# Altium footprint library Filters.PcbLib: 24 footprints (part 1 of 2)
Each footprint in its own frame and in the unit in brackets; x right, y up, seen from the top. Pads: shape width x height; smd on the part's side, far side on the other; paste and mask are expansions set on the pad; w line width, h text height; cw(c..) or ccw(c..) is an arc to the next point about the centre after c.
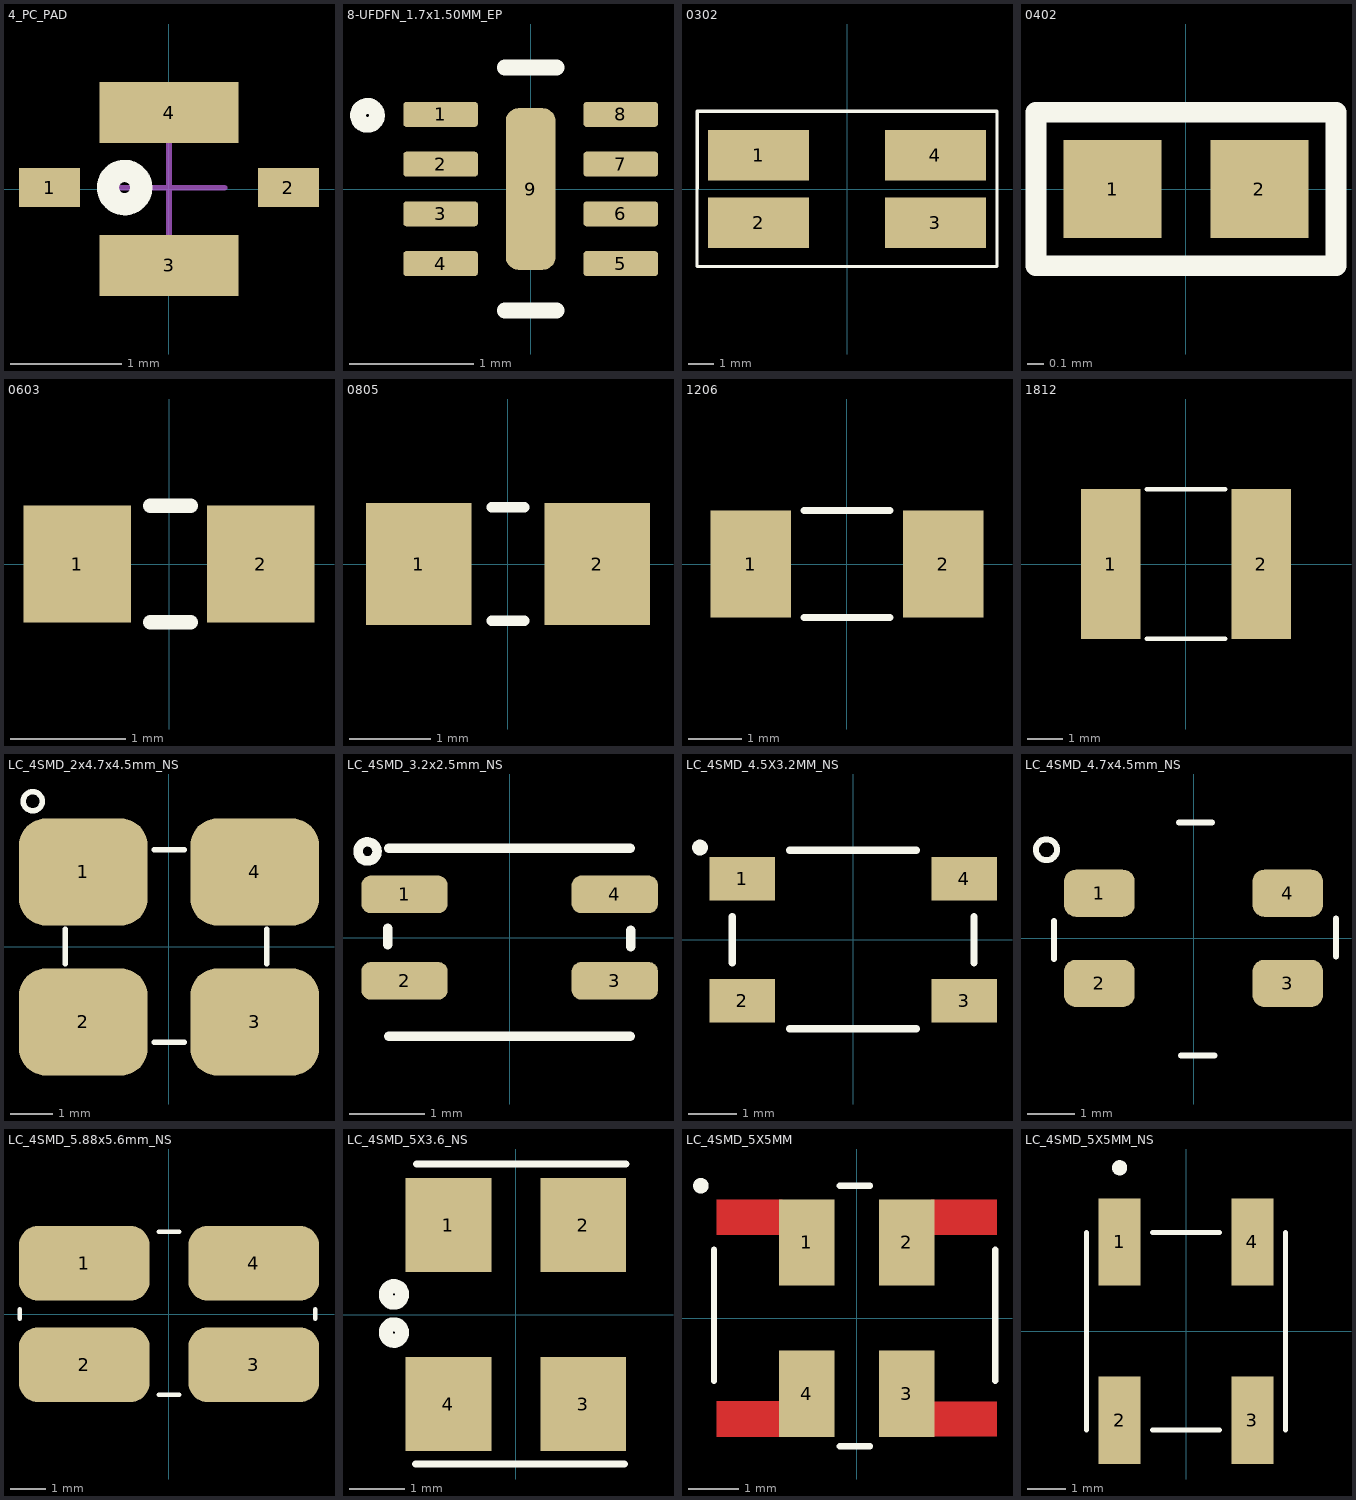
[diagram p0: the footprints below, top view; thin cyan lines are the x and y axes]

## 4_PC_PAD [mm] "4_PC_PAD/20200727/M-C.Calderon"
height 1.05
pads (4):
  rect 0.55x0.35 smd mask+0.05: 1(-1.076,0.013) 2(1.076,0.013)
  rect 1.25x0.55 smd mask+0.05: 3(0,-0.688) 4(0,0.688)
Top Overlay:
  circle w0.2: c-0.4,0.013 r0.15
Mechanical 15:
  lines w0.05: -0.5,0.013 0.5,0.013 ; 0,-0.487 0,0.513
3D body: height 1.05, standoff 0, extent -1,-0.637 1,0.663

## 8-UFDFN_1.7x1.50MM_EP [mm] "/20220825/J-A.Sepulveda"
pads (9):
  rrect25% 0.6x0.2 smd paste+0 mask+0.051: 1(-0.725,0.6) 2(-0.725,0.2) 3(-0.725,-0.2) 4(-0.725,-0.6) 5(0.725,-0.6) 6(0.725,-0.2) 7(0.725,0.2) 8(0.725,0.6)
  rrect50% 0.4x1.3 smd paste+0 mask+0.051: 9(0,0)
Top Overlay:
  circle w0.127: c-1.313,0.592 r0.076
  lines w0.127: -0.209,-0.978 0.209,-0.978 ; -0.209,0.978 0.209,0.978
3D body "IP4254CZ8-4-TTL-13--3DModel-STEP-56544.STEP": height 0.5, standoff 0, extent -0.675,-0.85 0.675,0.85

## 0302 [mm] "/20220804/J-E.Pachon"
pads (4):
  rect 4x2 smd: 1(-3.5,1.335) 2(-3.5,-1.335) 3(3.5,-1.335) 4(3.5,1.335)
Top Overlay:
  lines w0.127: -5.933,-3.067 5.933,-3.067 5.933,3.071 -5.922,3.071 -5.933,-3.067
3D body "7427521 (rev1).stp": height 3.25, standoff 0.05, extent -4.476,-2.797 4.424,2.803

## 0402 [mm] "1005 Metric / 20190222 / N-A.Potosi"
pads (2):
  rect 0.6x0.6 smd: 1(-0.45,0) 2(0.45,0)
Top Overlay:
  lines w0.127: -0.92,-0.47 -0.92,-0.47 ; -0.92,-0.47 0.92,-0.47 0.92,0.47 -0.92,0.47 -0.92,-0.47
3D body: height 0.55, standoff 0, extent -0.5,-0.25 0.5,0.25

## 0603 [mil] "1608 Metric / 20190225 / C-A.Serna.A"
pads (2):
  rect 37x40 smd: 1(-31.5,0) 2(31.5,0)
Top Overlay:
  lines w5: -6.5,-20 7.5,-20 ; -6.5,20 7.5,20
3D body "C0603.step": height 11.89, standoff 0, extent -31.5,-15.75 31.5,15.75

## 0805 [mm] "2012 Metric / 20190225 / C-A.Serna.A"
pads (2):
  rect 1.3x1.5 smd: 1(-1.1,0) 2(1.1,0)
Top Overlay:
  lines w0.127: -0.2,-0.7 0.2,-0.7 ; -0.2,0.7 0.2,0.7
3D body: height 1, standoff 0, extent -1.1,-0.7 1.1,0.7

## 1206 [mm]
pads (2):
  rect 1.5x2 smd: 1(-1.8,0) 2(1.8,0)
Top Overlay:
  lines w0.127: -0.8,-1 0.8,-1 ; -0.8,1 0.8,1
3D body: height 1.8, standoff 0, extent -1.65,-0.85 1.65,0.85

## 1812 [mm] "/20210125/V-A.Patino"
pads (2):
  rect 1.67x4.22 smd: 1(-2.117,0) 2(2.118,0)
Top Overlay:
  lines w0.127: -1.1,-2.11 1.1,-2.11 ; -1.1,2.11 1.1,2.11
3D body "74279226101.stp": height 2.31, standoff 0.01, extent -2.25,-1.6 2.25,1.6

## LC_4SMD_2x4.7x4.5mm_NS [mm] "/20200429/V-A.Patino"
pads (4):
  rrect50% 3x2.5 smd: 1(-2,1.75) 2(-2,-1.75) 3(2,-1.75) 4(2,1.75)
Top Overlay:
  lines w0.127: -2.957,3.401 cw(c-3.18,3.401) -2.957,3.404 ; -2.416,-0.392 -2.416,0.409 ; -0.35,-2.222 0.358,-2.222 ; -0.35,2.272 0.358,2.272 ; 2.279,-0.392 2.279,0.409
3D body "acm4520.step": height 1.9, standoff 0.01, extent -2.346,-2.228 2.354,2.272

## LC_4SMD_3.2x2.5mm_NS [mm] "/ 20190225 / C-A.Serna.A"
pads (4):
  rrect50% 1.15x0.5 smd: 1(-1.4,0.575) 2(-1.4,-0.575) 3(1.4,-0.575) 4(1.4,0.575)
Top Overlay:
  circle w0.127: c-1.893,1.148 r0.127
  lines w0.127: -1.625,-0.096 -1.625,0.122 ; -1.613,-1.312 1.607,-1.312 ; -1.613,1.188 1.607,1.188 ; 1.612,-0.119 1.612,0.099
3D body "Choke-ACP3225-1.STEP": height 1.91, standoff 0, extent -1.613,-1.312 1.607,1.188

## LC_4SMD_4.5X3.2MM_NS [mm] "20220221 / E.Naranjo"
pads (4):
  rect 1.346x0.889 smd: 1(-2.275,1.25) 2(-2.275,-1.25) 3(2.275,-1.25) 4(2.275,1.25)
Top Overlay:
  circle w0.2: c-3.141,1.887 r0.061
  lines w0.152: -2.476,-0.473 -2.476,0.473 ; -1.297,-1.829 1.297,-1.829 ; -1.297,1.829 1.297,1.829 ; 2.476,-0.473 2.476,0.473
3D body "XMER_PE-1812ACC220STS_PUL.step": height 3, standoff 0, extent -2.319,-1.7 2.381,1.704

## LC_4SMD_4.7x4.5mm_NS [mm] "/20201104/J-E.Pachon"
pads (4):
  rrect50% 1.5x1 smd: 1(-2,0.957) 2(-2,-0.957) 3(2,-0.957) 4(2,0.957)
Top Overlay:
  lines w0.127: -2.963,-0.434 -2.963,0.366 ; -2.902,1.881 cw(c-3.124,1.881) -2.902,1.883 ; -0.313,2.459 0.395,2.459 ; -0.264,-2.489 0.444,-2.489 ; 3.023,-0.384 3.023,0.417
3D body "acm4520.step": height 1.9, standoff 0.01, extent -2.326,-2.277 2.374,2.223

## LC_4SMD_5.88x5.6mm_NS [mm] "20190328 / V-A.Patino"
pads (4):
  rrect50% 3.66x2.085 smd: 1(-2.375,1.423) 2(-2.375,-1.422) 3(2.375,-1.422) 4(2.375,1.423)
Top Overlay:
  lines w0.127: -4.178,-0.127 -4.178,0.127 ; -0.292,-2.26 0.292,-2.26 ; -0.292,2.312 0.292,2.312 ; 4.102,-0.127 4.102,0.127
3D body "dlw43sh v4.step": height 2.62, standoff 0.02, extent -2.212,-1.574 2.288,1.626

## LC_4SMD_5X3.6_NS [mm]
pads (4):
  rect 1.55x1.7 smd: 1(-1.22,1.618) 2(1.22,1.618) 3(1.22,-1.618) 4(-1.22,-1.618)
Top Overlay:
  circle w0.254: c-2.205,0.365 r0.149
  circle w0.254: c-2.205,-0.325 r0.149
  lines w0.127: -1.815,-2.703 1.97,-2.703 ; -1.796,2.725 1.988,2.725
3D body: height 2.2, standoff 0, extent -1.815,-2.495 1.785,2.525

## LC_4SMD_5X5MM [mm] "20200820 / M-C.Calderon"
pads (4):
  rect 1.092x1.7 smd: 1(-0.988,1.493) 2(0.988,1.493) 3(0.988,-1.493) 4(-0.988,-1.493)
Top Layer:
  rectangle: 1.468,-2.341 2.768,-1.641
  rectangle: -2.768,-2.343 -1.468,-1.639
  region: 2.768,2.343 1.468,2.343 1.468,1.643 2.768,1.643
  rectangle: -2.768,1.643 -1.468,2.343
Top Overlay:
  circle w0.152: c-3.076,2.612 r0.076
  lines w0.127: -2.817,-1.239 -2.817,1.352 ; -0.336,-2.526 0.261,-2.526 ; -0.336,2.612 0.261,2.612 ; 2.737,-1.239 2.737,1.352
3D body "User Library-DLW5BT.STEP": height 2.45, standoff 0, extent -2.519,-2.507 2.481,2.493

## LC_4SMD_5X5MM_NS [mm] "20220221 / E.Naranjo"
pads (4):
  rect 1.1x2.3 smd: 1(-1.75,2.35) 2(-1.75,-2.35) 3(1.75,-2.35) 4(1.75,2.35)
Top Overlay:
  circle w0.2: c-1.751,4.305 r0.1
  lines w0.127: -2.62,-2.6 -2.62,2.6 ; -0.88,-2.6 0.88,-2.6 ; -0.88,2.6 0.88,2.6 ; 2.62,-2.6 2.62,2.6
3D body "PLT5BPH3013R7SNL--3DModel-STEP-1.STEP": height 5, standoff 0, extent -2.49,-3.148 2.51,3.152